# Altium integrated library gps-barometer.IntLib: 30 symbols
Pins are listed as number, name and electrical type; pins without a type are passive.

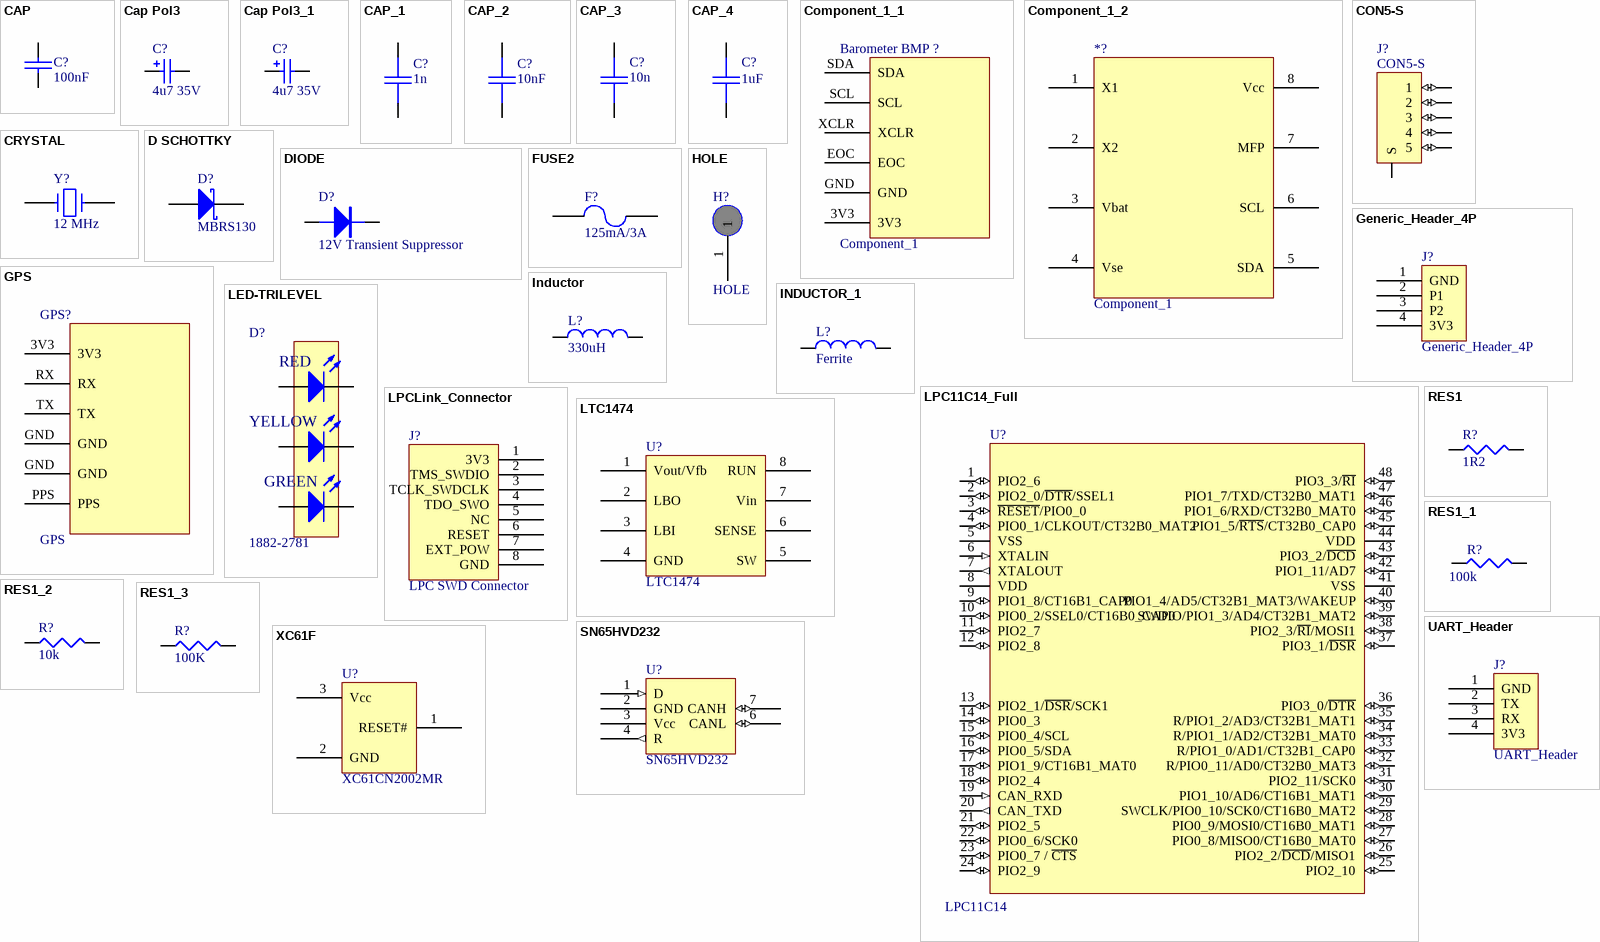
[diagram p0: symbols CAP to XC61F]

## CAP
designator C?, comment 100nF
Capacitor; Needed?: NO - HW LAB; Value: 100nF
footprint 0603
pins: 1, 2

## Cap Pol3
designator C?, comment 4u7 35V
Polarized Capacitor (Surface Mount); Value: 4.7uF; Needed?: Farnell; Revision: July-2002: Re-released for DXP Platform.; Farnell: 1844256; Farnell Price: 0.075
footprint CC2012-0805
simulation model CAP (Capacitor)
signal-integrity model Cap Pol
footprint MCCT-CASEC (MCCT Case C)
pins: 1, 2

## Cap Pol3_1
designator C?, comment 4u7 35V
Polarized Capacitor (Surface Mount); Value: 4.7uF; Needed?: Farnell; Revision: July-2002: Re-released for DXP Platform.; Farnell: 1844256; Farnell Price: 0.075
footprint CC2012-0805
simulation model CAP (Capacitor)
signal-integrity model Cap Pol
footprint MCCT-CASEC (MCCT Case C)
footprint MCCT-CASEA
pins: 1, 2

## CAP_1
designator C?, comment 1n
Capacitor; Value: 1nF; Needed?: NO - HW LAB; Revision: July-2002: Re-released for DXP Platform.
footprint 0603
simulation model CAP (Capacitor)
signal-integrity model Cap
footprint 0603
footprint RAD0.1
footprint RAD0.2
footprint RAD0.3
footprint RAD0.4
pins: 1, 2

## CAP_2
designator C?, comment 10nF
Capacitor; Needed?: NO - HW LAB; Value: 10nF
footprint RAD0.1
footprint RAD0.2
footprint RAD0.3
footprint RAD0.4
footprint 0603
pins: 1, 2

## CAP_3
designator C?, comment 10n
Capacitor; Value: 1nF; Needed?: NO - HW LAB; Revision: July-2002: Re-released for DXP Platform.
simulation model CAP (Capacitor)
signal-integrity model Cap
footprint 0603
pins: 1, 2

## CAP_4
designator C?, comment value 1uF  (hidden comment: 1u)
Capacitor; Needed?: RS; RS: 640-6404; RS Price: 0.06
footprint RAD0.1
footprint RAD0.2
footprint RAD0.3
footprint RAD0.4
footprint 0603
footprint 0805
footprint 1206
pins: 1, 2

## Component_1_1
designator Barometer BMP ?, comment Component_1
footprint PCBComponent_1
pins: 3V3, EOC, GND, SCL, SDA, XCLR

## Component_1_2
designator *?, comment Component_1
pins: 1 X1, 2 X2, 3 Vbat, 4 Vse, 5 SDA, 6 SCL, 7 MFP, 8 Vcc

## CON5-S
designator J?
Connector, 2 pin, with shield @ S; Needed?: NO - Workshop; Farnell Price: 19.32
footprint TRIAD3F
footprint TRIAD5F
footprint TRIAD3M
footprint TRIAD5M
pins: 0 S (io), 1 (io), 2 (io), 3 (io), 4 (io), 5 (io)

## CRYSTAL
designator Y?, comment 12 MHz
Crystal; Needed?: RS; RS: 693-8803; RS Price: 0.95
footprint HC49/4HSMX
footprint HC49/4H
pins: 1, 2

## D SCHOTTKY
designator D?, comment MBRS130
Schottky Diode; Needed?: Unsure - RS; RS: 625-5278; RS Price: 0.39; Revision: July-2002: Re-released for DXP Platform.; Farnell: 708-150; Farnell Price: 2.09
footprint DSO-C2/X2.3 (DO-214AA)
simulation model SKYDIODE (Diode)
signal-integrity model D Schottky
ediflib Model Name (Model Description)
footprint SMB
pins: A, K

## DIODE
designator D?, comment 12V Transient Suppressor
Diode; Needed?: NO - Workshop; Farnell: 302-3096; Farnell Price: 1.25
footprint SMA
footprint DIODE0.7
pins: A, K

## FUSE2
designator F?, comment 125mA/3A
Fuse; Needed?: NO - Workshop; Farnell: 664-893; Other Info: www.littelfuse.com; Farnell Price: 5.67
footprint LITTELFUSE-154
pins: 1, 2

## Generic_Header_4P
designator J?
Needed?: NO - Common
footprint IDC4
pins: 1 GND, 2 P1, 3 P2, 4 3V3

## GPS
designator GPS?
footprint GPS
pins: 3V3, GND, GND, PPS, RX, TX

## HOLE
designator H?
Needed?: NO - Footprint
footprint M2.5
footprint M3
pins: 1

## Inductor
designator L?, comment 330uH
Inductor; Needed?: Not Used; Revision: July-2002: Re-released for DXP Platform.; Value: 330uH; Farnell: 200-451; Farnell Price: 2.90
footprint C1005-0402
simulation model INDUCTOR (Inductor)
signal-integrity model Inductor
footprint 1812
pins: 1, 2

## INDUCTOR_1
designator L?, comment Ferrite
Inductor; Manufacturer: Generic Components; Needed?: Farnell; Published: 8-Jun-2000; Revision: July-2002: Re-released for DXP Platform.; Publisher: Altium Limited; Farnell: 1839565; Farnell Price: 0.65
footprint C1005-0402
simulation model INDUCTOR (Inductor)
signal-integrity model Inductor
footprint 1812
footprint 0603
pins: 1, 2

## LED-TRILEVEL
designator D?, comment 1882-2781
Three level LED; Needed?: Farnell - Low Stock; Farnell: 1461596; Farnell Price: 4.56
footprint LED_TRILEVEL
pins: 1 K, 2 K, 3 K, 4 A, 5 A, 6 A
text: RED; YELLOW; GREEN

## LPC11C14_Full
designator U?, comment LPC11C14
Needed?: Farnell; Farnell: 1812185; Farnell Price: 8.38
footprint TSQFP50P900X900-48N (Thin QFP, 48-Leads, Body 7x7mm, Pitch 0.5mm, IPC Medium Density)
pins: 1 PIO2_6 (io), 2 PIO2_0/~{DTR}/SSEL1 (io), 3 ~{RESET}/PIO0_0 (io), 4 PIO0_1/CLKOUT/CT32B0_MAT2 (io), 5 VSS (power), 6 XTALIN (in), 7 XTALOUT (out), 8 VDD (power), 9 PIO1_8/CT16B1_CAP0 (io), 10 PIO0_2/SSEL0/CT16B0_CAP0 (io), 11 PIO2_7 (io), 12 PIO2_8 (io), 13 PIO2_1/~{DSR}/SCK1 (io), 14 PIO0_3 (io), 15 PIO0_4/SCL (io), 16 PIO0_5/SDA (io), 17 PIO1_9/CT16B1_MAT0 (io), 18 PIO2_4 (io), 19 CAN_RXD (in), 20 CAN_TXD (out), 21 PIO2_5 (io), 22 PIO0_6/SCK0 (io), 23 PIO0_7 / ~{CTS} (io), 24 PIO2_9 (io), 25 PIO2_10 (io), 26 PIO2_2/~{DCD}/MISO1 (io), 27 PIO0_8/MISO0/CT16B0_MAT0 (io), 28 PIO0_9/MOSI0/CT16B0_MAT1 (io), 29 SWCLK/PIO0_10/SCK0/CT16B0_MAT2 (io), 30 PIO1_10/AD6/CT16B1_MAT1 (io), 31 PIO2_11/SCK0 (io), 32 R/PIO0_11/AD0/CT32B0_MAT3 (io), 33 R/PIO1_0/AD1/CT32B1_CAP0 (io), 34 R/PIO1_1/AD2/CT32B1_MAT0 (io), 35 R/PIO1_2/AD3/CT32B1_MAT1 (io), 36 PIO3_0/~{DTR} (io), 37 PIO3_1/~{DSR} (io), 38 PIO2_3/~{RI}/MOSI1 (io), 39 SWDIO/PIO1_3/AD4/CT32B1_MAT2 (io), 40 PIO1_4/AD5/CT32B1_MAT3/WAKEUP (io), 41 VSS (power), 42 PIO1_11/AD7 (io), 43 PIO3_2/~{DCD} (io), 44 VDD (power), 45 PIO1_5/~{RTS}/CT32B0_CAP0 (io), 46 PIO1_6/RXD/CT32B0_MAT0 (io), 47 PIO1_7/TXD/CT32B0_MAT1 (io), 48 PIO3_3/~{RI} (io)

## LPCLink_Connector
designator J?, comment LPC SWD Connector
Needed?: NO - Common
footprint IDC8
pins: 1 3V3, 2 TMS_SWDIO, 3 TCLK_SWDCLK, 4 TDO_SWO, 5 NC, 6 RESET, 7 EXT_POW, 8 GND

## LTC1474
designator U?
Step-down converter; Needed?: Not Used
footprint TSOP8 (MS8 Family (MSOP8))
footprint SO8 (S8 Family)
pins: 1 Vout/Vfb, 2 LBO, 3 LBI, 4 GND, 5 SW, 6 SENSE, 7 Vin, 8 RUN

## RES1
designator R?, comment 1R2
Resistor; Value: 1.2R; Needed?: Farnell; Revision: July-2002: Re-released for DXP Platform.; Farnell: 1811627; Farnell Price: 0.044
footprint AXIAL-0.3
simulation model RESISTOR (Resistor)
signal-integrity model Res1
footprint 0603
footprint AXIAL0.4
footprint AXIAL0.3
footprint AXIAL0.5
footprint AXIAL0.6
pins: 1, 2

## RES1_1
designator R?, comment 100k
Resistor; Needed?: NO - HW LAB; Value: 100k
footprint AXIAL0.4
footprint AXIAL0.3
footprint AXIAL0.5
footprint AXIAL0.6
footprint 0603
footprint 0805
footprint 1206
pins: 1, 2

## RES1_2
designator R?, comment 10k
Resistor; Needed?: NO - HW LAB; Value: 10k
footprint AXIAL0.4
footprint AXIAL0.3
footprint AXIAL0.5
footprint AXIAL0.6
footprint 0603-A (0603)
footprint 0603
pins: 1, 2

## RES1_3
designator R?, comment 100K
Resistor; Needed?: NO - HW LAB; Value: 100k
footprint AXIAL0.4
footprint AXIAL0.3
footprint AXIAL0.5
footprint AXIAL0.6
footprint 0603
footprint 0805
footprint 1206
pins: 1, 2

## SN65HVD232
designator U?
3.3V CAN Transciever; Needed?: Unsure - RS; RS: 461-9771; RS Price: 3.81; Farnell: 1103107; Farnell Price: 5.10
footprint SO8
pins: 1 D (in), 2 GND (power), 3 Vcc (power), 4 R (out), 6 CANL (io), 7 CANH (io)

## UART_Header
designator J?
Needed?: NO - Common
footprint IDC4
pins: 1 GND, 2 TX, 3 RX, 4 3V3

## XC61F
designator U?, comment XC61CN2002MR
SOT23 reset generator; Needed?: Farnell; Farnell: 3605486; Farnell Price: 1.74
footprint SOT23(3)
pins: 1 RESET#, 2 GND, 3 Vcc